# EAGLE library part RN05 (library aq-resistor-net)
RESISTOR NETWORK
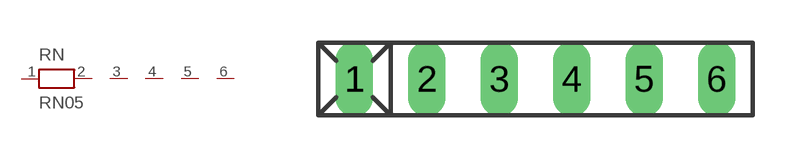
[diagram p3: symbol with the pads of RN-6; footprint RN-6]

Designator prefix RN

## RN05 (OC_FARNELL: unknown; OC_NEWARK: unknown)  [RN-6]
1  1  pas
2  2  pas
3  3  pas
4  4  pas
5  5  pas
6  6  pas

## Footprint RN-6 (pad centres in mm)
RESISTOR NETWORK
drill 0.813 long: 1 -6.35,0; 2 -3.81,0; 3 -1.27,0; 4 1.27,0; 5 3.81,0; 6 6.35,0